# Altium schematic symbol library CPU_STM.SchLib: 336 symbols (part 6 of 6)
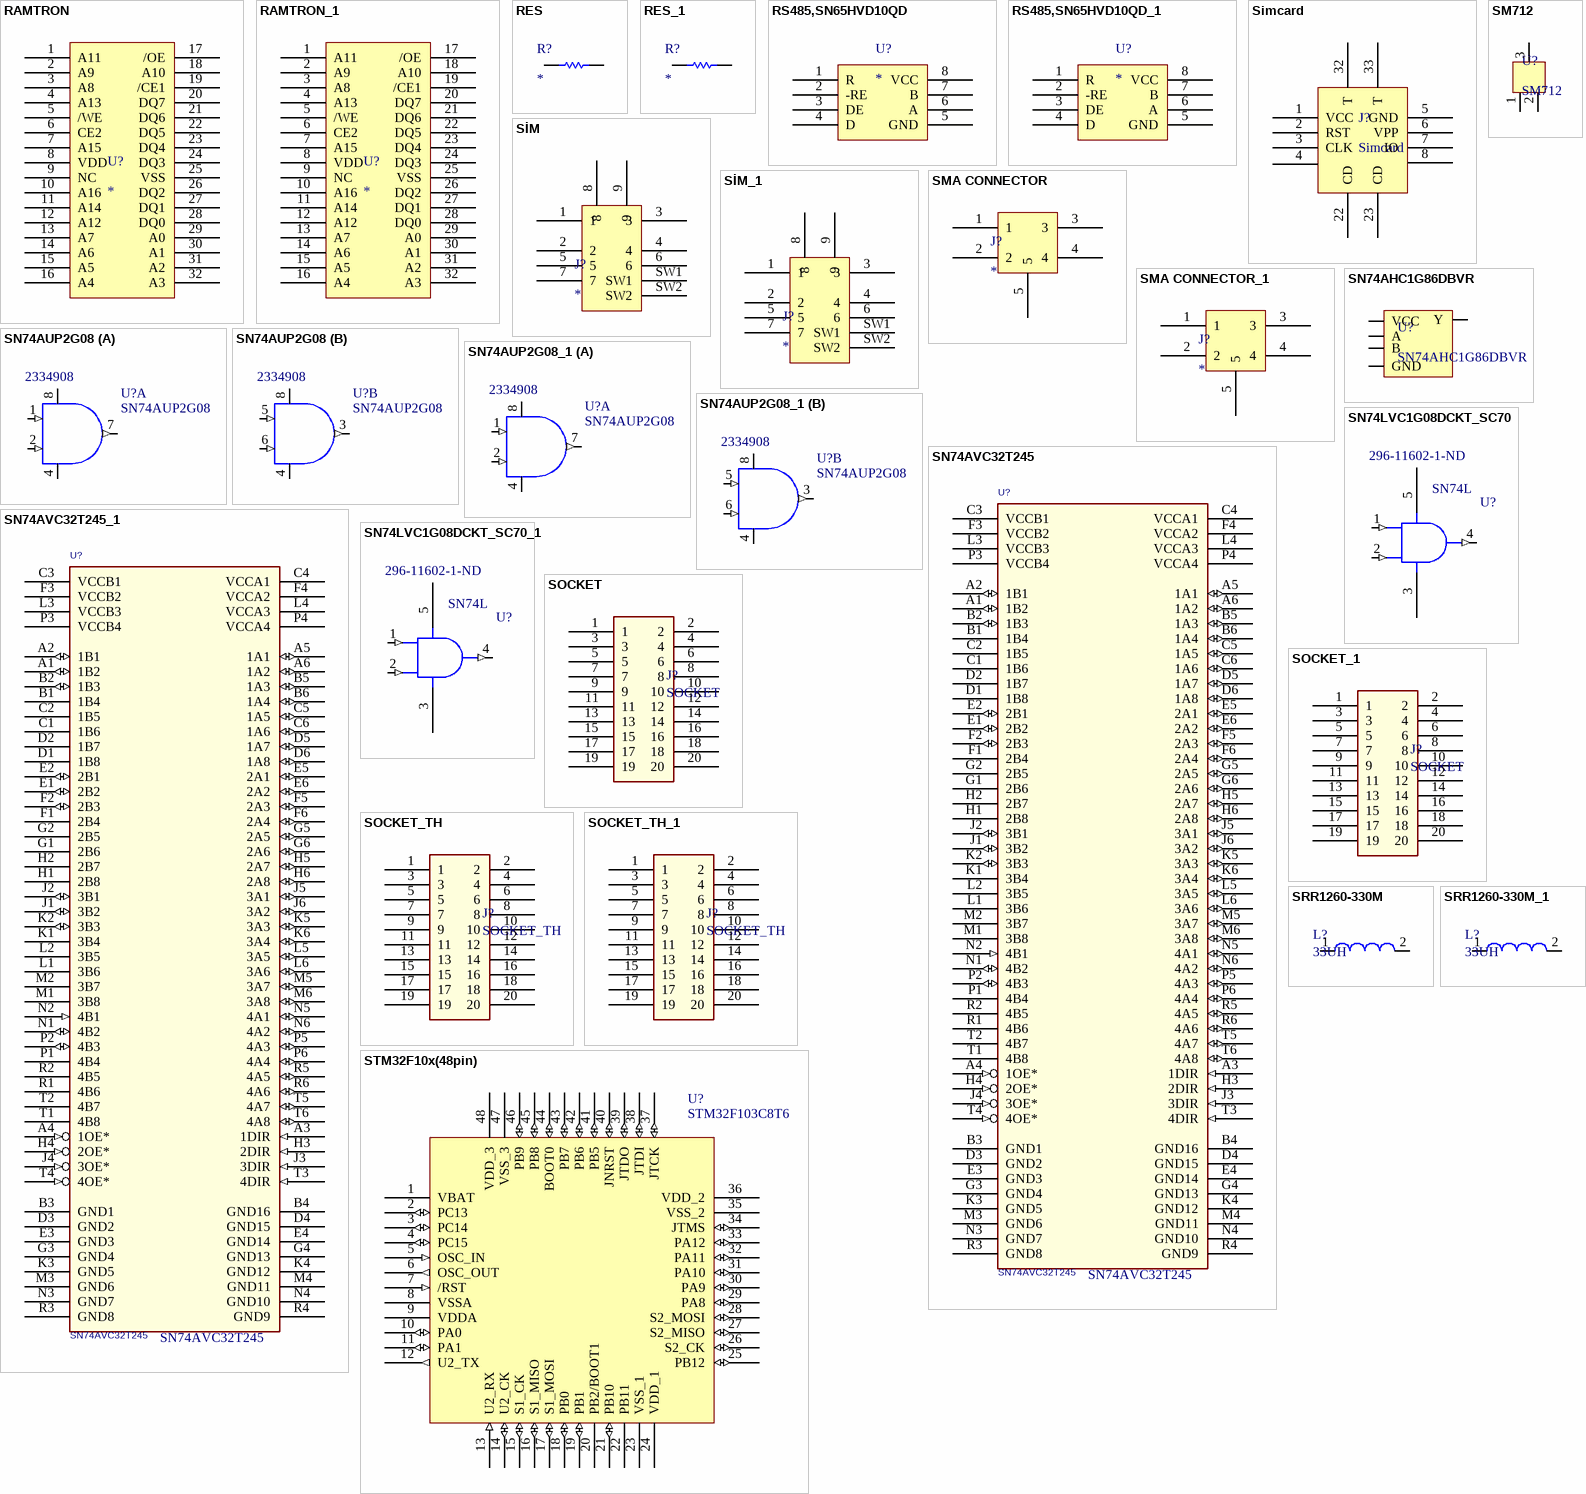
[diagram p24: symbols RAMTRON to STM32F10x(48pin)]

## RES_1
designator R?
VISHAY DRALORIC - CRCW08051K30FKEA - RESISTOR, 0805, 1K3, 1%, FULL REEL; Product Range: VISHAY - CRCW Series; Resistance: 1.3; Power Rating: 125; Resistor Case Style: 0805 [2012 Metric]; Resistor Element Material: Thick Film; Temperature Coefficient: ± 100; Voltage Rating: 150; SVHC: No SVHC (16-Dec-2013); Reel Quantity: 5000; Resistor Mounting: SMD<!--FANDB--><div class="features-and-benefits-container"></div>; Supplier 1: Farnell; Manufacturer: VISHAY DRALORIC; Manufacturer Part Number: CRCW08051K30FKEA; RoHS: Y-EX; Stock 1: 35000; Pricing 1: 5000=0,003, 25000=0,003, 50000=0,003 (EUR); Resistance Tolerance: ± 1%; Packaging: Tape & Reel; MSL: MSL 1 - Unlimited; ComponentLink1URL: http://www.farnell.com/datasheets/1697337.pdf; ComponentLink1Description: http://www.farnell.com/datasheets/1697337.pdf; Supplier Part Number 1: 2123141
footprint 0402
pins: 1, 2

## RS485,SN65HVD10QD
designator U?
TEXAS INSTRUMENTS - SN65HVD10QD - IC, RS-485 TRANSCEIVER, 3.6V, SOIC-8; Device Type: Differential Transceiver; IC Interface Type: RS485; No. of Drivers: 1; Supply Voltage Min: 3; Supply Voltage Max: 3.6; Driver Case Style: SOIC; No. of Pins: 8; Data Rate: 32; SVHC: No SVHC (16-Jun-2014); Supply Voltage Range: 3V to 3.6; Supplier 1: Farnell; Manufacturer: TEXAS INSTRUMENTS; Manufacturer Part Number: SN65HVD10QD; RoHS: YES; Stock 1: 172; Pricing 1: 1=6,53, 10=5,25, 100=4,78, 250=3,71, 500=3,48, 1000=3,06 (EUR); Operating Temperature Min: -40; Operating Temperature Max: 125; Packaging: Each; MSL: MSL 1 - Unlimited; Logic Case Style: SOIC; Operating Temperature Range: -40°C to +125; ComponentLink1URL: http://www.farnell.com/datasheets/1831135.pdf; ComponentLink1Description: http://www.farnell.com/datasheets/1831135.pdf; ComponentLink2URL: http://www.farnell.com/cad/1618781.zip; ComponentLink2Description: http://www.farnell.com/cad/1618781.zip; Supplier Part Number 1: 1460763
footprint SOIC-8
pins: 1 R, 2 -RE, 3 DE, 4 D, 5 GND, 6 A, 7 B, 8 VCC

## RS485,SN65HVD10QD_1
designator U?
TEXAS INSTRUMENTS - SN65HVD10QD - IC, RS-485 TRANSCEIVER, 3.6V, SOIC-8; Device Type: Differential Transceiver; IC Interface Type: RS485; No. of Drivers: 1; Supply Voltage Min: 3; Supply Voltage Max: 3.6; Driver Case Style: SOIC; No. of Pins: 8; Data Rate: 32; SVHC: No SVHC (16-Jun-2014); Supply Voltage Range: 3V to 3.6; Supplier 1: Farnell; Manufacturer: TEXAS INSTRUMENTS; Manufacturer Part Number: SN65HVD10QD; RoHS: YES; Stock 1: 172; Pricing 1: 1=6,53, 10=5,25, 100=4,78, 250=3,71, 500=3,48, 1000=3,06 (EUR); Operating Temperature Min: -40; Operating Temperature Max: 125; Packaging: Each; MSL: MSL 1 - Unlimited; Logic Case Style: SOIC; Operating Temperature Range: -40°C to +125; ComponentLink1URL: http://www.farnell.com/datasheets/1831135.pdf; ComponentLink1Description: http://www.farnell.com/datasheets/1831135.pdf; ComponentLink2URL: http://www.farnell.com/cad/1618781.zip; ComponentLink2Description: http://www.farnell.com/cad/1618781.zip; Supplier Part Number 1: 1460763
footprint SOIC-8
pins: 1 R, 2 -RE, 3 DE, 4 D, 5 GND, 6 A, 7 B, 8 VCC

## Simcard
designator J?
footprint SIMCARD
pins: 1 VCC, 2 RST, 3 CLK, 4, 5 GND, 6 VPP, 7 IO, 8, 22 CD, 23 CD, 32 T, 33 T

## SİM
designator J?
SİM
footprint SIM
pins: 1, 2, 3, 4, 5, 6, 7, 8, 9, SW1, SW2

## SİM_1
designator J?
SİM
footprint SIM
pins: 1, 2, 3, 4, 5, 6, 7, 8, 9, SW1, SW2

## SM712
designator U?
TVS DIODE 12VWM 21VC SOT23; Manufacturer: Micro Commercial Co; Manufacturer Part Number: SM712-TP; Bidirectional Channels: 2; Voltage - Reverse Standoff (Typ): 12V (Max); Voltage - Breakdown (Min): 13.3V; Voltage - Clamping (Max) @ Ipp: 21V; Current - Peak Pulse (10/1000µs): 5A (8/20µs); Power - Peak Pulse: 400W; Power Line Protection: No; Capacitance @ Frequency: 45pF @ 1MHz; Supplier 1: Digi-Key; RoHS: RoHS Compliant; Category: Circuit Protection; Stock 1: 35845; Pricing 1: 1=1.08, 10=0.957, 25=0.864, 100=0.756, 250=0.663, 500=0.588, 1000=0.465 (USD); Packaging: Cut Tape (CT); Type: Zener; Unidirectional Channels: -; Applications: General Purpose; Operating Temperature: -55°C ~ 150°C (TJ); Mounting Type: Surface Mount; Package / Case: TO-236-3, SC-59, SOT-23-3; Supplier Device Package: SOT-23; ComponentLink1URL: http://www.mccsemi.com/up_pdf/SM712(SOT-23).pdf; ComponentLink1Description: http://www.mccsemi.com/up_pdf/SM712(SOT-23).pdf; Supplier Part Number 1: SM712-TPMSCT-ND
footprint SM712 Sot23-3
pins: 1, 2, 3

## SMA CONNECTOR
designator J?
SMA
footprint SMA
pins: 1, 2, 3, 4, 5

## SMA CONNECTOR_1
designator J?
SMA
footprint SMA
pins: 1, 2, 3, 4, 5

## SN74AHC1G86DBVR
designator U?
IC GATE XOR 1CH 2-INP SOT-23-5; Manufacturer: Texas Instruments; Logic Type: XOR (Exclusive OR); Number of Circuits: 1; Number of Inputs: 2; Voltage - Supply: 2 V ~ 5.5 V; Current - Quiescent (Max): 1µA; Current - Output High, Low: 8mA, 8mA; Logic Level - Low: 0.5 V ~ 1.65 V; Logic Level - High: 1.5 V ~ 3.85 V; Max Propagation Delay @ V, Max CL: 8.8ns @ 5V, 50pF; Manufacturer Part Number: SN74AHC1G86DBVR; RoHS: RoHS Compliant; Category: Integrated Circuits (ICs); Packaging: Cut Tape (CT); Features: -; Operating Temperature: -40°C ~ 85°C; Mounting Type: Surface Mount; Supplier Device Package: SOT-23-5; Package / Case: SC-74A, SOT-753; ComponentLink1URL: http://www.ti.com/lit/ds/symlink/sn74ahc1g86.pdf; ComponentLink1Description: http://www.ti.com/lit/ds/symlink/sn74ahc1g86.pdf; Supplier 1: Digi-Key; Stock 1: 12192; Pricing 1: 1=0.36, 10=0.29, 100=0.198, 500=0.1482, 1000=0.111 (USD); Supplier Part Number 1: 296-1094-6-ND
footprint SOT23-5 (R-PDSO-N5)
pins: 1 A, 2 B, 3 GND, 4 Y, 5 VCC

## SN74AUP2G08
designator U?  Supplier Part Number 1: 2334908
Low Power Dual AND Gate; Mfr: TI; MfrNum: SN74AUP2G08DCU; TIIntPartnumber: 1A0249; Vendor: Digikey; Cost100: 0.11; Cost10K: 0.05; DescriptiveText: Low Power Dual AND Gate; PartName: SN74AUP2G08; Descriptive_Text: Low Power Dual AND Gate; Supplier 1: Farnell
footprint U_8_DCU
part A pins: 1 2A (in), 2 2B (in), 4 GND (power), 7 2Y (out), 8 VCC (power)
part B pins: 3 2Y (out), 4 GND (power), 5 2A (in), 6 2B (in), 8 VCC (power)

## SN74AUP2G08_1
designator U?, comment SN74AUP2G08  Supplier Part Number 1: 2334908
Low Power Dual AND Gate; Mfr: TI; MfrNum: SN74AUP2G08DCU; TIIntPartnumber: 1A0249; Vendor: Digikey; Cost100: 0.11; Cost10K: 0.05; DescriptiveText: Low Power Dual AND Gate; PartName: SN74AUP2G08; Descriptive_Text: Low Power Dual AND Gate; Supplier 1: Farnell
footprint U_8_DCU
part A pins: 1 2A (in), 2 2B (in), 4 GND (power), 7 2Y (out), 8 VCC (power)
part B pins: 3 2Y (out), 4 GND (power), 5 2A (in), 6 2B (in), 8 VCC (power)

## SN74AVC32T245
designator U?
32bit Dual Supply Bus Transceiver w/3state outputs; TIIntPartnumber: 1A0273; MfrNum: SN74AVC32T245ZKE; Mfr: TI; Cost10K: 0.63; Cost100: 1.11; Vendor: Digikey; SlotXofY: SYM 1 OF 1; Descriptive_Text: 32bit Dual Supply Bus Transceiver w/3state outputs; PartName: SN74AVC32T245ZKE; Instance: ?; BoardLocation: ?; RefLocation: ?; DescriptiveText: 32bit Dual Supply Bus Transceiver w/3state outputs; Supplier 1: Digi-Key; Supplier Part Number 1: 296-19099-2-ND; SymName: SN74AVC32T245
footprint sm_bga_p8_6x16 (SM_BGA_P8_6X16)
pins: A1 1B2 (io), A2 1B1 (io), A3 1DIR (in), A4 1OE* (in), A5 1A1 (io), A6 1A2 (io), B1 1B4, B2 1B3 (io), B3 GND1 (power), B4 GND16 (power), B5 1A3 (io), B6 1A4 (io), C1 1B6, C2 1B5, C3 VCCB1 (power), C4 VCCA1 (power), C5 1A5 (io), C6 1A6 (io), D1 1B8, D2 1B7, D3 GND2 (power), D4 GND15 (power), D5 1A7 (io), D6 1A8 (io), E1 2B2 (io), E2 2B1 (io), E3 GND3 (power), E4 GND14 (power), E5 2A1 (io), E6 2A2 (io), F1 2B4, F2 2B3 (io), F3 VCCB2 (power), F4 VCCA2 (power), F5 2A3 (io), F6 2A4 (io), G1 2B6, G2 2B5, G3 GND4 (power), G4 GND13 (power), G5 2A5 (io), G6 2A6 (io), H1 2B8, H2 2B7, H3 2DIR (in), H4 2OE* (in), H5 2A7 (io), H6 2A8 (io), J1 3B2 (io), J2 3B1 (io), J3 3DIR (in), J4 3OE* (in), J5 3A1 (io), J6 3A2 (io), K1 3B4, K2 3B3 (io), K3 GND5 (power), K4 GND12 (power), K5 3A3 (io), K6 3A4 (io), L1 3B6, L2 3B5, L3 VCCB3 (power), L4 VCCA3 (power), L5 3A5 (io), L6 3A6 (io), M1 3B8, M2 3B7, M3 GND6 (power), M4 GND11 (power), M5 3A7 (io), M6 3A8 (io), N1 4B2 (io), N2 4B1 (in), N3 GND7 (power), N4 GND10 (power), N5 4A1 (io), N6 4A2 (io), P1 4B4, P2 4B3 (io), P3 VCCB4 (power), P4 VCCA4 (power), P5 4A3 (io), P6 4A4 (io), R1 4B6, R2 4B5, R3 GND8 (power), R4 GND9 (power), R5 4A5 (io), R6 4A6 (io), T1 4B8, T2 4B7, T3 4DIR (in), T4 4OE* (in), T5 4A7 (io), T6 4A8 (io)

## SN74AVC32T245_1
designator U?, comment SN74AVC32T245
32bit Dual Supply Bus Transceiver w/3state outputs; TIIntPartnumber: 1A0273; MfrNum: SN74AVC32T245ZKE; Mfr: TI; Cost10K: 0.63; Cost100: 1.11; Vendor: Digikey; SlotXofY: SYM 1 OF 1; Descriptive_Text: 32bit Dual Supply Bus Transceiver w/3state outputs; PartName: SN74AVC32T245ZKE; Instance: ?; BoardLocation: ?; RefLocation: ?; DescriptiveText: 32bit Dual Supply Bus Transceiver w/3state outputs; Supplier 1: Digi-Key; Supplier Part Number 1: 296-19099-2-ND; SymName: SN74AVC32T245
footprint sm_bga_p8_6x16 (SM_BGA_P8_6X16)
pins: A1 1B2 (io), A2 1B1 (io), A3 1DIR (in), A4 1OE* (in), A5 1A1 (io), A6 1A2 (io), B1 1B4, B2 1B3 (io), B3 GND1 (power), B4 GND16 (power), B5 1A3 (io), B6 1A4 (io), C1 1B6, C2 1B5, C3 VCCB1 (power), C4 VCCA1 (power), C5 1A5 (io), C6 1A6 (io), D1 1B8, D2 1B7, D3 GND2 (power), D4 GND15 (power), D5 1A7 (io), D6 1A8 (io), E1 2B2 (io), E2 2B1 (io), E3 GND3 (power), E4 GND14 (power), E5 2A1 (io), E6 2A2 (io), F1 2B4, F2 2B3 (io), F3 VCCB2 (power), F4 VCCA2 (power), F5 2A3 (io), F6 2A4 (io), G1 2B6, G2 2B5, G3 GND4 (power), G4 GND13 (power), G5 2A5 (io), G6 2A6 (io), H1 2B8, H2 2B7, H3 2DIR (in), H4 2OE* (in), H5 2A7 (io), H6 2A8 (io), J1 3B2 (io), J2 3B1 (io), J3 3DIR (in), J4 3OE* (in), J5 3A1 (io), J6 3A2 (io), K1 3B4, K2 3B3 (io), K3 GND5 (power), K4 GND12 (power), K5 3A3 (io), K6 3A4 (io), L1 3B6, L2 3B5, L3 VCCB3 (power), L4 VCCA3 (power), L5 3A5 (io), L6 3A6 (io), M1 3B8, M2 3B7, M3 GND6 (power), M4 GND11 (power), M5 3A7 (io), M6 3A8 (io), N1 4B2 (io), N2 4B1 (in), N3 GND7 (power), N4 GND10 (power), N5 4A1 (io), N6 4A2 (io), P1 4B4, P2 4B3 (io), P3 VCCB4 (power), P4 VCCA4 (power), P5 4A3 (io), P6 4A4 (io), R1 4B6, R2 4B5, R3 GND8 (power), R4 GND9 (power), R5 4A5 (io), R6 4A6 (io), T1 4B8, T2 4B7, T3 4DIR (in), T4 4OE* (in), T5 4A7 (io), T6 4A8 (io)

## SN74LVC1G08DCKT_SC70
designator U?, comment SN74L  Supplier Part Number 1: 296-11602-1-ND
Single logic AND Gate; PartName: SN74LVC1G08_SC70; Mfr: TI; MfrNum: SN74LVC1G08DCK; TIIntPartnumber: 1A0257; Vendor: Digikey; Cost100: 0.31; Cost10K: 0.05; Descriptive_Text: Single logic AND Gate; DescriptiveText: Single logic AND Gate; Supplier 1: Digi-Key
footprint sm-so-sc70-5 (SM-SO-SC70-5)
pins: 1 A (in), 2 B (in), 3 GND (power), 4 Y (out), 5 VCC (power)

## SN74LVC1G08DCKT_SC70_1
designator U?, comment SN74L  Supplier Part Number 1: 296-11602-1-ND
Single logic AND Gate; PartName: SN74LVC1G08_SC70; Mfr: TI; MfrNum: SN74LVC1G08DCK; TIIntPartnumber: 1A0257; Vendor: Digikey; Cost100: 0.31; Cost10K: 0.05; Descriptive_Text: Single logic AND Gate; DescriptiveText: Single logic AND Gate; Supplier 1: Digi-Key
footprint sm-so-sc70-5 (SM-SO-SC70-5)
pins: 1 A (in), 2 B (in), 3 GND (power), 4 Y (out), 5 VCC (power)

## SOCKET
designator J?
Headers & Wire Housings 10+10 DIL SMT GOLD VERTICAL SOCKET; Manufacturer: Harwin; Manufacturer Part Number: M50-3121045; Number of Positions: 20; Pitch: 1.27 mm; Supplier 1: Mouser; RoHS: RoHS Compliant; Category: Headers & Wire Housings; Stock 1: 293; Pricing 1: 1=3.03, 10=2.90, 25=2.54, 100=2.42, 250=2.12, 500=2.06, 1000=1.76, 2500=1.64, 5000=1.56 (USD); Contact Plating: Gold; Mounting Angle: Vertical; Number of Rows: 2; Product: Headers; Series: M50; Termination Style: SMD; Type: Socket Assembly; Brand: Harwin; Mounting Style: -; Contact Gender: Socket (Female); Product Category: 1.27mm, M50, Archer; Standard Pack Qty: 46; Tradename: ARCHER; RoHS - Mouser: Y; Minimum Order Quantity: 1; Reeling: False; ComponentLink1URL: http://www.mouser.com/ds/2/181/M50-312-351210.pdf; ComponentLink1Description: http://www.mouser.com/ds/2/181/M50-312-351210.pdf; Supplier Part Number 1: 855-M50-3121045
footprint SOCKET
pins: 1, 2, 3, 4, 5, 6 (power), 7, 8 (power), 9, 10 (power), 11, 12 (power), 13, 14, 15, 16 (power), 17, 18, 19, 20 (power)

## SOCKET_1
designator J?, comment SOCKET
Headers & Wire Housings 10+10 DIL SMT GOLD VERTICAL SOCKET; Manufacturer: Harwin; Manufacturer Part Number: M50-3121045; Number of Positions: 20; Pitch: 1.27 mm; Supplier 1: Mouser; RoHS: RoHS Compliant; Category: Headers & Wire Housings; Stock 1: 293; Pricing 1: 1=3.03, 10=2.90, 25=2.54, 100=2.42, 250=2.12, 500=2.06, 1000=1.76, 2500=1.64, 5000=1.56 (USD); Contact Plating: Gold; Mounting Angle: Vertical; Number of Rows: 2; Product: Headers; Series: M50; Termination Style: SMD; Type: Socket Assembly; Brand: Harwin; Mounting Style: -; Contact Gender: Socket (Female); Product Category: 1.27mm, M50, Archer; Standard Pack Qty: 46; Tradename: ARCHER; RoHS - Mouser: Y; Minimum Order Quantity: 1; Reeling: False; ComponentLink1URL: http://www.mouser.com/ds/2/181/M50-312-351210.pdf; ComponentLink1Description: http://www.mouser.com/ds/2/181/M50-312-351210.pdf; Supplier Part Number 1: 855-M50-3121045
footprint SOCKET
pins: 1, 2, 3, 4, 5, 6 (power), 7, 8 (power), 9, 10 (power), 11, 12 (power), 13, 14, 15, 16 (power), 17, 18, 19, 20 (power)

## SOCKET_TH
designator J?
Headers & Wire Housings 10+10 DIL SMT GOLD VERTICAL SOCKET; Manufacturer: Harwin; Manufacturer Part Number: M50-3121045; Number of Positions: 20; Pitch: 1.27 mm; Supplier 1: Mouser; RoHS: RoHS Compliant; Category: Headers & Wire Housings; Stock 1: 293; Pricing 1: 1=3.03, 10=2.90, 25=2.54, 100=2.42, 250=2.12, 500=2.06, 1000=1.76, 2500=1.64, 5000=1.56 (USD); Contact Plating: Gold; Mounting Angle: Vertical; Number of Rows: 2; Product: Headers; Series: M50; Termination Style: SMD; Type: Socket Assembly; Brand: Harwin; Mounting Style: -; Contact Gender: Socket (Female); Product Category: 1.27mm, M50, Archer; Standard Pack Qty: 46; Tradename: ARCHER; RoHS - Mouser: Y; Minimum Order Quantity: 1; Reeling: False; ComponentLink1URL: http://www.mouser.com/ds/2/181/M50-312-351210.pdf; ComponentLink1Description: http://www.mouser.com/ds/2/181/M50-312-351210.pdf; Supplier Part Number 1: 855-M50-3121045
footprint JTAG,0.254
pins: 1, 2, 3, 4, 5, 6 (power), 7, 8 (power), 9, 10 (power), 11, 12 (power), 13, 14, 15, 16 (power), 17, 18, 19, 20 (power)

## SOCKET_TH_1
designator J?, comment SOCKET_TH
Headers & Wire Housings 10+10 DIL SMT GOLD VERTICAL SOCKET; Manufacturer: Harwin; Manufacturer Part Number: M50-3121045; Number of Positions: 20; Pitch: 1.27 mm; Supplier 1: Mouser; RoHS: RoHS Compliant; Category: Headers & Wire Housings; Stock 1: 293; Pricing 1: 1=3.03, 10=2.90, 25=2.54, 100=2.42, 250=2.12, 500=2.06, 1000=1.76, 2500=1.64, 5000=1.56 (USD); Contact Plating: Gold; Mounting Angle: Vertical; Number of Rows: 2; Product: Headers; Series: M50; Termination Style: SMD; Type: Socket Assembly; Brand: Harwin; Mounting Style: -; Contact Gender: Socket (Female); Product Category: 1.27mm, M50, Archer; Standard Pack Qty: 46; Tradename: ARCHER; RoHS - Mouser: Y; Minimum Order Quantity: 1; Reeling: False; ComponentLink1URL: http://www.mouser.com/ds/2/181/M50-312-351210.pdf; ComponentLink1Description: http://www.mouser.com/ds/2/181/M50-312-351210.pdf; Supplier Part Number 1: 855-M50-3121045
footprint JTAG,0.254
pins: 1, 2, 3, 4, 5, 6 (power), 7, 8 (power), 9, 10 (power), 11, 12 (power), 13, 14, 15, 16 (power), 17, 18, 19, 20 (power)

## SRR1260-330M
designator L?, comment 33UH
Fixed Inductors 33uH 20% SMD 1260; Manufacturer: Bourns; Manufacturer Part Number: SRR1260-330M; Maximum DC Current: 3 A; Maximum DC Resistance: 60 mOhms; Q Minimum: 27; Self Resonant Frequency: 9.97 MHz; Shielding: Shielded; Type: Shielded Power Inductor; Case Height: 6 mm; Case Length: 12.5 mm; Supplier 1: Mouser; RoHS: RoHS Compliant; Category: Fixed Inductors; Stock 1: 3279; Pricing 1: 1=0.972, 10=0.853, 50=0.730, 100=0.694, 250=0.634, 600=0.439, 1200=0.437 (USD); Inductance: 33 uH; Operating Temperature Range: - 40 C to + 125 C; Package/Case: 1260; Packaging: Reel; Product: Power Inductors; Series: SRR1260; Termination Style: SMD/SMT; Tolerance: 20 %; Brand: Bourns; Case Width: 12.5 mm; Product Category: Shielded Power Inductors; Standard Pack Qty: 600; RoHS - Mouser: Y; Minimum Order Quantity: 1; Reeling: True; ComponentLink1URL: http://www.mouser.com/ds/2/54/SRR1260-59143.pdf; ComponentLink1Description: http://www.mouser.com/ds/2/54/SRR1260-59143.pdf; Supplier Part Number 1: 652-SRR1260-330M
footprint indkrt_2
pins: 1, 2

## SRR1260-330M_1
designator L?, comment 33UH
Fixed Inductors 33uH 20% SMD 1260; Manufacturer: Bourns; Manufacturer Part Number: SRR1260-330M; Maximum DC Current: 3 A; Maximum DC Resistance: 60 mOhms; Q Minimum: 27; Self Resonant Frequency: 9.97 MHz; Shielding: Shielded; Type: Shielded Power Inductor; Case Height: 6 mm; Case Length: 12.5 mm; Supplier 1: Mouser; RoHS: RoHS Compliant; Category: Fixed Inductors; Stock 1: 3279; Pricing 1: 1=0.972, 10=0.853, 50=0.730, 100=0.694, 250=0.634, 600=0.439, 1200=0.437 (USD); Inductance: 33 uH; Operating Temperature Range: - 40 C to + 125 C; Package/Case: 1260; Packaging: Reel; Product: Power Inductors; Series: SRR1260; Termination Style: SMD/SMT; Tolerance: 20 %; Brand: Bourns; Case Width: 12.5 mm; Product Category: Shielded Power Inductors; Standard Pack Qty: 600; RoHS - Mouser: Y; Minimum Order Quantity: 1; Reeling: True; ComponentLink1URL: http://www.mouser.com/ds/2/54/SRR1260-59143.pdf; ComponentLink1Description: http://www.mouser.com/ds/2/54/SRR1260-59143.pdf; Supplier Part Number 1: 652-SRR1260-330M
footprint indkrt_2
pins: 1, 2

## STM32F10x(48pin)
designator U?, comment STM32F103C8T6
Manufacturer: STMicroelectronics; Program Memory Type: Flash; A/D Bit Size: 12 bit; A/D Channels Available: 10; Data RAM Size: 20 kB; Data RAM Type: SRAM; Interface Type: CAN, I2C, SPI, USART, USB; Number of I/Os: 48 I/O; Program Memory Size: 64 kB; Core: ARM Cortex M3; Data Bus Width: 32 bit; Maximum Clock Frequency: 72 MHz; Number of Timers: 3 Timer; Operating Supply Voltage: 2 V to 3.6 V; Processor Series: ARM Cortex-M; Supplier 1: Mouser; Manufacturer Part Number: STM32F103C8T6; RoHS: RoHS Compliant; Category: ARM Microcontrollers - MCU; Stock 1: 2583; Pricing 1: 1=6.28, 10=5.06, 100=4.49, 250=4.14, 500=3.73, 1000=3.15, 2500=2.98 (USD); Length: 7 mm; Package/Case: LQFP-48; Packaging: Tray; Series: STM32F1; Brand: STMicroelectronics; Mounting Style: SMD/SMT; Maximum Operating Temperature: + 85 C; Minimum Operating Temperature: - 40 C; Product Category: ARM Based Microcontrollers; Standard Pack Qty: 250; Tradename: STM32; RoHS - Mouser: Y; Minimum Order Quantity: 1; Reeling: False; ComponentLink1URL: http://www.st.com/web/en/resource/technical/document/datasheet/CD00161566.pdf; ComponentLink1Description: http://www.st.com/web/en/resource/technical/document/datasheet/CD00161566.pdf; Supplier Part Number 1: 511-STM32F103C8T6
footprint STM-LQFP48_M (QFP, 48-Leads, Body 7x7mm, Pitch 0.5mm, IPC Low Density)
pins: 1 VBAT (power), 2 PC13 (io), 3 PC14 (io), 4 PC15 (io), 5 OSC_IN (in), 6 OSC_OUT (out), 7 /RST (in), 8 VSSA, 9 VDDA (power), 10 PA0 (io), 11 PA1 (io), 12 U2_TX (out), 13 U2_RX (in), 14 U2_CK (io), 15 S1_CK (io), 16 S1_MISO (io), 17 S1_MOSI (io), 18 PB0 (io), 19 PB1 (io), 20 PB2/BOOT1, 21 PB10 (io), 22 PB11, 23 VSS_1, 24 VDD_1 (power), 25 PB12 (io), 26 S2_CK (io), 27 S2_MISO (io), 28 S2_MOSI (io), 29 PA8 (io), 30 PA9 (io), 31 PA10 (io), 32 PA11 (io), 33 PA12 (io), 34 JTMS (io), 35 VSS_2, 36 VDD_2 (power), 37 JTCK (io), 38 JTDI (io), 39 JTDO (io), 40 JNRST (io), 41 PB5 (io), 42 PB6 (io), 43 PB7 (io), 44 BOOT0 (io), 45 PB8 (io), 46 PB9 (io), 47 VSS_3, 48 VDD_3 (power)
2 alternate drawings of the same symbol

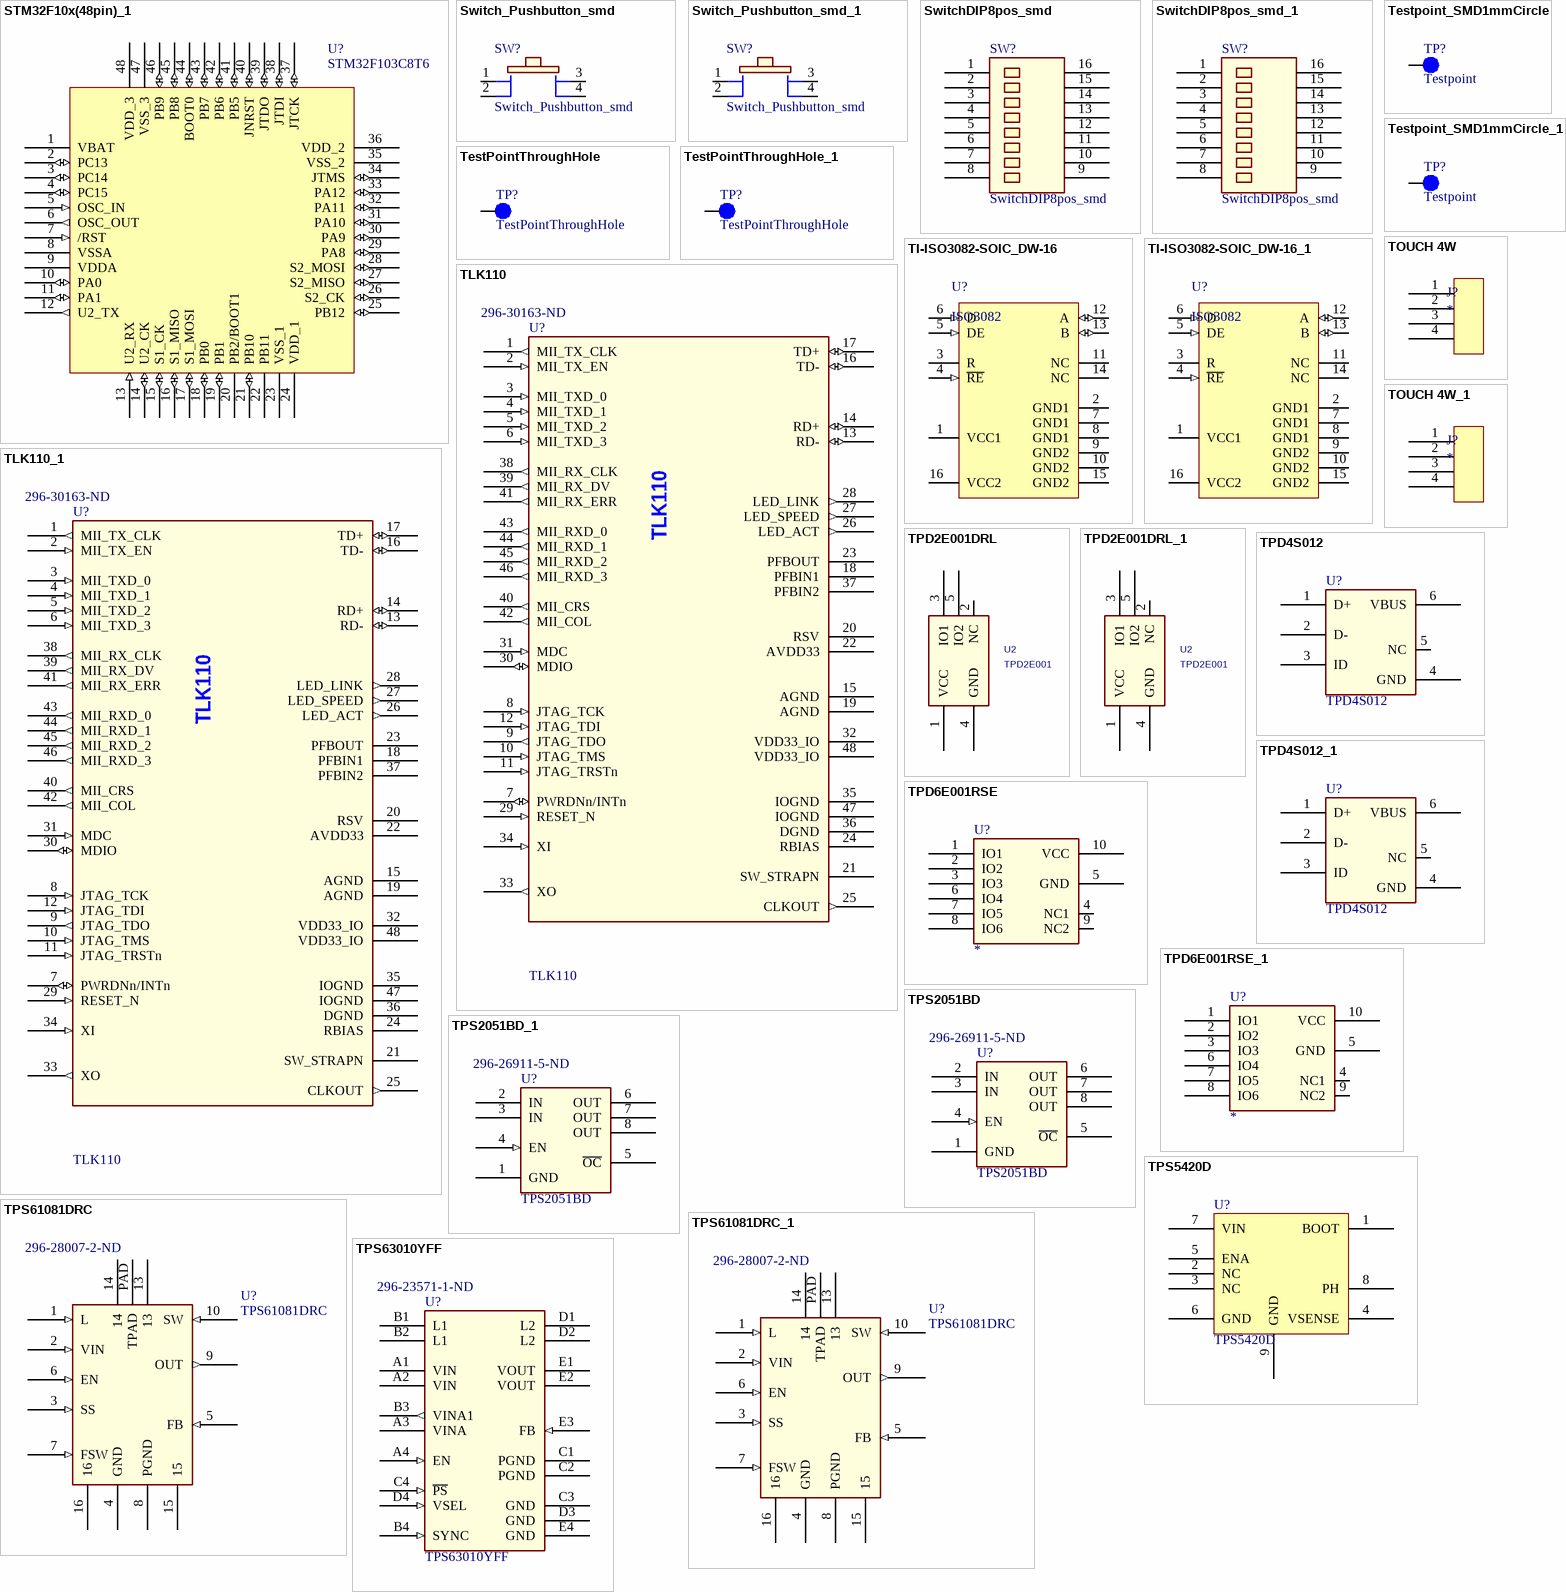
[diagram p18: symbols STM32F10x(48pin)_1 to TPS63010YFF]

## STM32F10x(48pin)_1
designator U?, comment STM32F103C8T6
Manufacturer: STMicroelectronics; Program Memory Type: Flash; A/D Bit Size: 12 bit; A/D Channels Available: 10; Data RAM Size: 20 kB; Data RAM Type: SRAM; Interface Type: CAN, I2C, SPI, USART, USB; Number of I/Os: 48 I/O; Program Memory Size: 64 kB; Core: ARM Cortex M3; Data Bus Width: 32 bit; Maximum Clock Frequency: 72 MHz; Number of Timers: 3 Timer; Operating Supply Voltage: 2 V to 3.6 V; Processor Series: ARM Cortex-M; Supplier 1: Mouser; Manufacturer Part Number: STM32F103C8T6; RoHS: RoHS Compliant; Category: ARM Microcontrollers - MCU; Stock 1: 2583; Pricing 1: 1=6.28, 10=5.06, 100=4.49, 250=4.14, 500=3.73, 1000=3.15, 2500=2.98 (USD); Length: 7 mm; Package/Case: LQFP-48; Packaging: Tray; Series: STM32F1; Brand: STMicroelectronics; Mounting Style: SMD/SMT; Maximum Operating Temperature: + 85 C; Minimum Operating Temperature: - 40 C; Product Category: ARM Based Microcontrollers; Standard Pack Qty: 250; Tradename: STM32; RoHS - Mouser: Y; Minimum Order Quantity: 1; Reeling: False; ComponentLink1URL: http://www.st.com/web/en/resource/technical/document/datasheet/CD00161566.pdf; ComponentLink1Description: http://www.st.com/web/en/resource/technical/document/datasheet/CD00161566.pdf; Supplier Part Number 1: 511-STM32F103C8T6
footprint STM-LQFP48_M (QFP, 48-Leads, Body 7x7mm, Pitch 0.5mm, IPC Low Density)
pins: 1 VBAT (power), 2 PC13 (io), 3 PC14 (io), 4 PC15 (io), 5 OSC_IN (in), 6 OSC_OUT (out), 7 /RST (in), 8 VSSA, 9 VDDA (power), 10 PA0 (io), 11 PA1 (io), 12 U2_TX (out), 13 U2_RX (in), 14 U2_CK (io), 15 S1_CK (io), 16 S1_MISO (io), 17 S1_MOSI (io), 18 PB0 (io), 19 PB1 (io), 20 PB2/BOOT1, 21 PB10 (io), 22 PB11, 23 VSS_1, 24 VDD_1 (power), 25 PB12 (io), 26 S2_CK (io), 27 S2_MISO (io), 28 S2_MOSI (io), 29 PA8 (io), 30 PA9 (io), 31 PA10 (io), 32 PA11 (io), 33 PA12 (io), 34 JTMS (io), 35 VSS_2, 36 VDD_2 (power), 37 JTCK (io), 38 JTDI (io), 39 JTDO (io), 40 JNRST (io), 41 PB5 (io), 42 PB6 (io), 43 PB7 (io), 44 BOOT0 (io), 45 PB8 (io), 46 PB9 (io), 47 VSS_3, 48 VDD_3 (power)
2 alternate drawings of the same symbol

## Switch_Pushbutton_smd
designator SW?
Switch Push Button tactile; TIIntPartnumber: 2W0018; MfrNum: B3SL-1022P; Mfr: Omron; PartName: SwitchPushMomTactilesmd; Cost10K: 0.25; Cost100: 0.340; Vendor: Digikey; DescriptiveText: Switch Push Button tactile; Descriptive_Text: Switch Push Button tactile
footprint SW_B3SL-1022P
pins: 1, 2, 3, 4

## Switch_Pushbutton_smd_1
designator SW?, comment Switch_Pushbutton_smd
Switch Push Button tactile; TIIntPartnumber: 2W0018; MfrNum: B3SL-1022P; Mfr: Omron; PartName: SwitchPushMomTactilesmd; Cost10K: 0.25; Cost100: 0.340; Vendor: Digikey; DescriptiveText: Switch Push Button tactile; Descriptive_Text: Switch Push Button tactile
footprint SW_B3SL-1022P
pins: 1, 2, 3, 4

## SwitchDIP8pos_smd
designator SW?
DIP Switch 8pos smd; Mfr: CTS Electrocomponents; MfrNum: 219-8MST; TIIntPartnumber: 2W0017; Vendor: Digikey; Cost100: 0.85; Cost10K: 0.38; DescriptiveText: DIP Switch 8pos smd; PartName: SwitchDIP8pos_smd; Descriptive_Text: DIP Switch 8pos smd; Supplier 1: Digi-Key; Supplier Part Number 1: CT2198MST-ND
footprint 219-8MST
pins: 1, 2, 3, 4, 5, 6, 7, 8, 9, 10, 11, 12, 13, 14, 15, 16

## SwitchDIP8pos_smd_1
designator SW?, comment SwitchDIP8pos_smd
DIP Switch 8pos smd; Mfr: CTS Electrocomponents; MfrNum: 219-8MST; TIIntPartnumber: 2W0017; Vendor: Digikey; Cost100: 0.85; Cost10K: 0.38; DescriptiveText: DIP Switch 8pos smd; PartName: SwitchDIP8pos_smd; Descriptive_Text: DIP Switch 8pos smd; Supplier 1: Digi-Key; Supplier Part Number 1: CT2198MST-ND
footprint 219-8MST
pins: 1, 2, 3, 4, 5, 6, 7, 8, 9, 10, 11, 12, 13, 14, 15, 16

## Testpoint_SMD1mmCircle
designator TP?, comment Testpoint
Testpoint SMD; PartName: TestpointSMD1mmCircle; TIIntPartnumber: 2H0046; DescriptiveText: Testpoint SMD 1mm circle pad; Cost100: 0; Mfr: N/A; MfrNum: N/A; Vendor: N/A; Cost10K: 0; Descriptive_Text: Testpoint SMD 1mm circle pad
footprint tp_smd1mmcircle
pins: 1

## Testpoint_SMD1mmCircle_1
designator TP?, comment Testpoint
Testpoint SMD; PartName: TestpointSMD1mmCircle; TIIntPartnumber: 2H0046; DescriptiveText: Testpoint SMD 1mm circle pad; Cost100: 0; Mfr: N/A; MfrNum: N/A; Vendor: N/A; Cost10K: 0; Descriptive_Text: Testpoint SMD 1mm circle pad
footprint tp_smd1mmcircle
pins: 1

## TestPointThroughHole
designator TP?
Testpoint TH; Mfr: Keystone Electronics; MfrNum: 5002; TIIntPartnumber: 2H0026; DescriptiveText: Testpoint Miniature Through Hole; Vendor: Digikey; Cost100: 0.163; Cost10K: 0.079; PartName: TestPointThroughHole; Descriptive_Text: Testpoint Miniature Through Hole
footprint TH_TP_5002
pins: 1

## TestPointThroughHole_1
designator TP?, comment TestPointThroughHole
Testpoint TH; Mfr: Keystone Electronics; MfrNum: 5002; TIIntPartnumber: 2H0026; DescriptiveText: Testpoint Miniature Through Hole; Vendor: Digikey; Cost100: 0.163; Cost10K: 0.079; PartName: TestPointThroughHole; Descriptive_Text: Testpoint Miniature Through Hole
footprint TH_TP_5002
pins: 1

## TI-ISO3082-SOIC_DW-16
designator U?, comment ISO3082
TEXAS INSTRUMENTS - ISO3082DW - IC, HALF-DUPLEX RS485 TXRX 16SOIC; Supplier 1: Farnell; Manufacturer: TEXAS INSTRUMENTS; Manufacturer Part Number: ISO3082DW; RoHS: YES; Stock 1: 553; Pricing 1: 1=7.55, 10=4.83, 100=3.18, 250=2.77, 500=2.69, 900=2.62, 2000=2.58 (GBP); ComponentLink1URL: http://www.farnell.com/datasheets/2018869.pdf; ComponentLink1Description: http://www.farnell.com/datasheets/2018869.pdf; ComponentLink2URL: http://www.farnell.com/cad/1611922.zip; ComponentLink2Description: http://www.farnell.com/cad/1611922.zip; ComponentLink3URL: http://www.farnell.com/datasheets/1828908.pdf; ComponentLink3Description: http://www.farnell.com/datasheets/1828908.pdf; Supplier Part Number 1: 1755040
footprint DW16_L (SOIC, 16-Leads, Body 10.3x7.5mm, Pitch 1.27mm, IPC High Density)
pins: 1 VCC1 (power), 2 GND1 (power), 3 R (hiz), 4 ~{RE} (in), 5 DE (in), 6 D (in), 7 GND1 (power), 8 GND1 (power), 9 GND2 (power), 10 GND2 (power), 11 NC, 12 A (io), 13 B (io), 14 NC, 15 GND2 (power), 16 VCC2 (power)

## TI-ISO3082-SOIC_DW-16_1
designator U?, comment ISO3082
TEXAS INSTRUMENTS - ISO3082DW - IC, HALF-DUPLEX RS485 TXRX 16SOIC; Supplier 1: Farnell; Manufacturer: TEXAS INSTRUMENTS; Manufacturer Part Number: ISO3082DW; RoHS: YES; Stock 1: 553; Pricing 1: 1=7.55, 10=4.83, 100=3.18, 250=2.77, 500=2.69, 900=2.62, 2000=2.58 (GBP); ComponentLink1URL: http://www.farnell.com/datasheets/2018869.pdf; ComponentLink1Description: http://www.farnell.com/datasheets/2018869.pdf; ComponentLink2URL: http://www.farnell.com/cad/1611922.zip; ComponentLink2Description: http://www.farnell.com/cad/1611922.zip; ComponentLink3URL: http://www.farnell.com/datasheets/1828908.pdf; ComponentLink3Description: http://www.farnell.com/datasheets/1828908.pdf; Supplier Part Number 1: 1755040
footprint DW16_L (SOIC, 16-Leads, Body 10.3x7.5mm, Pitch 1.27mm, IPC High Density)
pins: 1 VCC1 (power), 2 GND1 (power), 3 R (hiz), 4 ~{RE} (in), 5 DE (in), 6 D (in), 7 GND1 (power), 8 GND1 (power), 9 GND2 (power), 10 GND2 (power), 11 NC, 12 A (io), 13 B (io), 14 NC, 15 GND2 (power), 16 VCC2 (power)

## TLK110
designator U?  Supplier Part Number 1: 296-30163-ND
Industrial Ethernet 10/100 Mb/s PHY Transceiver; TIIntPartnumber: 1A0291; MfrNum: TLK110PT; Mfr: TI; Cost10K: 2.31; Cost100: 5.01; Vendor: Digikey; Descriptive_Text: Industrial Ethernet 10/100 Mb/s PHY Transceiver; PartName: TLK110; DescriptiveText: Industrial Ethernet 10/100 Mb/s PHY Transceiver; Supplier 1: Digi-Key
footprint HTQFP_48pin
pins: 1 MII_TX_CLK (out), 2 MII_TX_EN (in), 3 MII_TXD_0 (in), 4 MII_TXD_1 (in), 5 MII_TXD_2 (in), 6 MII_TXD_3 (in), 7 PWRDNn/INTn (io), 8 JTAG_TCK (in), 9 JTAG_TDO (out), 10 JTAG_TMS (in), 11 JTAG_TRSTn (in), 12 JTAG_TDI (in), 13 RD- (io), 14 RD+ (io), 15 AGND (power), 16 TD- (io), 17 TD+ (io), 18 PFBIN1 (power), 19 AGND (power), 20 RSV, 21 SW_STRAPN, 22 AVDD33 (power), 23 PFBOUT (power), 24 RBIAS, 25 CLKOUT (out), 26 LED_ACT (out), 27 LED_SPEED (out), 28 LED_LINK (out), 29 RESET_N (in), 30 MDIO (io), 31 MDC (in), 32 VDD33_IO (power), 33 XO (out), 34 XI (in), 35 IOGND (power), 36 DGND (power), 37 PFBIN2 (power), 38 MII_RX_CLK (out), 39 MII_RX_DV (out), 40 MII_CRS (out), 41 MII_RX_ERR (out), 42 MII_COL (out), 43 MII_RXD_0 (out), 44 MII_RXD_1 (out), 45 MII_RXD_2 (out), 46 MII_RXD_3 (out), 47 IOGND (power), 48 VDD33_IO (power)

## TLK110_1
designator U?, comment TLK110  Supplier Part Number 1: 296-30163-ND
Industrial Ethernet 10/100 Mb/s PHY Transceiver; TIIntPartnumber: 1A0291; MfrNum: TLK110PT; Mfr: TI; Cost10K: 2.31; Cost100: 5.01; Vendor: Digikey; Descriptive_Text: Industrial Ethernet 10/100 Mb/s PHY Transceiver; PartName: TLK110; DescriptiveText: Industrial Ethernet 10/100 Mb/s PHY Transceiver; Supplier 1: Digi-Key
footprint HTQFP_48pin
pins: 1 MII_TX_CLK (out), 2 MII_TX_EN (in), 3 MII_TXD_0 (in), 4 MII_TXD_1 (in), 5 MII_TXD_2 (in), 6 MII_TXD_3 (in), 7 PWRDNn/INTn (io), 8 JTAG_TCK (in), 9 JTAG_TDO (out), 10 JTAG_TMS (in), 11 JTAG_TRSTn (in), 12 JTAG_TDI (in), 13 RD- (io), 14 RD+ (io), 15 AGND (power), 16 TD- (io), 17 TD+ (io), 18 PFBIN1 (power), 19 AGND (power), 20 RSV, 21 SW_STRAPN, 22 AVDD33 (power), 23 PFBOUT (power), 24 RBIAS, 25 CLKOUT (out), 26 LED_ACT (out), 27 LED_SPEED (out), 28 LED_LINK (out), 29 RESET_N (in), 30 MDIO (io), 31 MDC (in), 32 VDD33_IO (power), 33 XO (out), 34 XI (in), 35 IOGND (power), 36 DGND (power), 37 PFBIN2 (power), 38 MII_RX_CLK (out), 39 MII_RX_DV (out), 40 MII_CRS (out), 41 MII_RX_ERR (out), 42 MII_COL (out), 43 MII_RXD_0 (out), 44 MII_RXD_1 (out), 45 MII_RXD_2 (out), 46 MII_RXD_3 (out), 47 IOGND (power), 48 VDD33_IO (power)

## TOUCH 4W
designator J?
MOLEX - 52207-0460 - SOCKET ZIF, 1MM, 4WAY; Gender: Receptacle; Pitch Spacing: 1; No. of Contacts: 4; FFC/FPC Thickness: 0.3; Contact Termination Type: Surface Mount; Contact Position: Top; Contact Termination: Surface Mount Right Angle; Supplier 1: Farnell; Manufacturer: MOLEX; Manufacturer Part Number: 52207-0460; RoHS: YES; Stock 1: 3058; Pricing 1: 1=0,601, 10=0,419, 500=0,248, 1000=0,247, 2500=0,246, 5000=0,244, 5000=0,243, 30000=0,241 (EUR); Series: -; No. of Rows: 1; Contact Plating: Gold; Contact Material: Phosphor Bronze; Packaging: Cut Tape<!--FANDB--><div class="features-and-benefits-container"><div class="features-and-benefits-desc-container"><span class="features-and-benefits-container-desc">FFC/FPC Connector, Right-Angle, SMT, ZIF, Top Contact Style Receptacle, 4 Way</span></div><div class="features-and-benefits-list"><ul class="features-and-benefits-list-list"><li class="features-and-benefits-list-item">Robust solder tabs (nails)</li><li class="features-and-benefits-list-item">ZIF and LIF options</li><li class="features-and-benefits-list-item">Robust terminal and actuator designs</li></ul></div></div>; ComponentLink1URL: http://www.farnell.com/cad/1771235.pdf; ComponentLink1Description: http://www.farnell.com/cad/1771235.pdf; ComponentLink2URL: http://www.farnell.com/datasheets/1783888.pdf; ComponentLink2Description: http://www.farnell.com/datasheets/1783888.pdf; Supplier Part Number 1: 1509028
footprint HEADER,3PİN
pins: 1, 2, 3, 4

## TOUCH 4W_1
designator J?
MOLEX - 52207-0460 - SOCKET ZIF, 1MM, 4WAY; Gender: Receptacle; Pitch Spacing: 1; No. of Contacts: 4; FFC/FPC Thickness: 0.3; Contact Termination Type: Surface Mount; Contact Position: Top; Contact Termination: Surface Mount Right Angle; Supplier 1: Farnell; Manufacturer: MOLEX; Manufacturer Part Number: 52207-0460; RoHS: YES; Stock 1: 3058; Pricing 1: 1=0,601, 10=0,419, 500=0,248, 1000=0,247, 2500=0,246, 5000=0,244, 5000=0,243, 30000=0,241 (EUR); Series: -; No. of Rows: 1; Contact Plating: Gold; Contact Material: Phosphor Bronze; Packaging: Cut Tape<!--FANDB--><div class="features-and-benefits-container"><div class="features-and-benefits-desc-container"><span class="features-and-benefits-container-desc">FFC/FPC Connector, Right-Angle, SMT, ZIF, Top Contact Style Receptacle, 4 Way</span></div><div class="features-and-benefits-list"><ul class="features-and-benefits-list-list"><li class="features-and-benefits-list-item">Robust solder tabs (nails)</li><li class="features-and-benefits-list-item">ZIF and LIF options</li><li class="features-and-benefits-list-item">Robust terminal and actuator designs</li></ul></div></div>; ComponentLink1URL: http://www.farnell.com/cad/1771235.pdf; ComponentLink1Description: http://www.farnell.com/cad/1771235.pdf; ComponentLink2URL: http://www.farnell.com/datasheets/1783888.pdf; ComponentLink2Description: http://www.farnell.com/datasheets/1783888.pdf; Supplier Part Number 1: 1509028
footprint HEADER,3PİN
pins: 1, 2, 3, 4

## TPD2E001DRL
designator U2, comment TPD2E001
TIIntPartnumber: 1A0247; MfrNum: TPD2E001DRL; Mfr: TI; Cost10K: 0.07; Cost100: 0.31; Vendor: Digikey; DescriptiveText: ESD Protection Array 2Chan +-15kV; PartName: TPD2E001; Supplier 1: Digi-Key; Supplier Part Number 1: 296-35960-1-ND
footprint U_5_DRL
pins: 1 VCC (power), 2 NC, 3 IO1, 4 GND (power), 5 IO2

## TPD2E001DRL_1
designator U2, comment TPD2E001
TIIntPartnumber: 1A0247; MfrNum: TPD2E001DRL; Mfr: TI; Cost10K: 0.07; Cost100: 0.31; Vendor: Digikey; DescriptiveText: ESD Protection Array 2Chan +-15kV; PartName: TPD2E001; Supplier 1: Digi-Key; Supplier Part Number 1: 296-35960-1-ND
footprint U_5_DRL
pins: 1 VCC (power), 2 NC, 3 IO1, 4 GND (power), 5 IO2

## TPD4S012
designator U?
ESD 4channel USB Interface; Mfr: TI; MfrNum: TPD4S012DRY; TIIntPartnumber: 1A0233; Vendor: Digikey; Cost100: 0.76; Cost10K: 0.23; DescriptiveText: ESD 4channel USB Interface; PartName: TPD4S012; Descriptive_Text: ESD 4channel USB Interface; Supplier 1: Digi-Key; Supplier Part Number 1: 296-24244-1-ND
footprint U_6_DRY
pins: 1 D+, 2 D-, 3 ID, 4 GND (power), 5 NC, 6 VBUS (power)

## TPD4S012_1
designator U?, comment TPD4S012
ESD 4channel USB Interface; Mfr: TI; MfrNum: TPD4S012DRY; TIIntPartnumber: 1A0233; Vendor: Digikey; Cost100: 0.76; Cost10K: 0.23; DescriptiveText: ESD 4channel USB Interface; PartName: TPD4S012; Descriptive_Text: ESD 4channel USB Interface; Supplier 1: Digi-Key; Supplier Part Number 1: 296-24244-1-ND
footprint U_6_DRY
pins: 1 D+, 2 D-, 3 ID, 4 GND (power), 5 NC, 6 VBUS (power)

## TPD6E001RSE
designator U?
ESD Protection Array 6Chan +-15kV; TIIntPartnumber: 1A0248; MfrNum: TPD6E001RSE; Mfr: TI; PartName: TPD6E001; Cost10K: 0.11; Cost100: 0.42; Vendor: Digikey; Descriptive_Text: ESD Protection Array 6Chan +-15kV; DescriptiveText: ESD Protection Array 6Chan +-15kV; Supplier 1: Digi-Key; Supplier Part Number 1: 296-21888-1-ND
footprint U_10_RSE
pins: 1 IO1, 2 IO2, 3 IO3, 4 NC1, 5 GND (power), 6 IO4, 7 IO5, 8 IO6, 9 NC2, 10 VCC (power)

## TPD6E001RSE_1
designator U?
ESD Protection Array 6Chan +-15kV; TIIntPartnumber: 1A0248; MfrNum: TPD6E001RSE; Mfr: TI; PartName: TPD6E001; Cost10K: 0.11; Cost100: 0.42; Vendor: Digikey; Descriptive_Text: ESD Protection Array 6Chan +-15kV; DescriptiveText: ESD Protection Array 6Chan +-15kV; Supplier 1: Digi-Key; Supplier Part Number 1: 296-21888-1-ND
footprint U_10_RSE
pins: 1 IO1, 2 IO2, 3 IO3, 4 NC1, 5 GND (power), 6 IO4, 7 IO5, 8 IO6, 9 NC2, 10 VCC (power)

## TPS2051BD
designator U?  Supplier Part Number 1: 296-26911-5-ND
Power Distribution Switch Current Limited 500mA; Mfr: TI; TIIntPartnumber: 1A0286; Vendor: Digikey; Cost100: 1.70; Cost10K: 0.39; DescriptiveText: Power Distribution Switch Current Limited 500mA; PartName: TPS2051BD; MfrNum: TPS2051BD; Descriptive_Text: Power Distribution Switch Current Limited 500mA; Supplier 1: Digi-Key
footprint U_8_D
pins: 1 GND (power), 2 IN (power), 3 IN (power), 4 EN (in), 5 ~{OC} (oc), 6 OUT (power), 7 OUT (power), 8 OUT (power)

## TPS2051BD_1
designator U?, comment TPS2051BD  Supplier Part Number 1: 296-26911-5-ND
Power Distribution Switch Current Limited 500mA; Mfr: TI; TIIntPartnumber: 1A0286; Vendor: Digikey; Cost100: 1.70; Cost10K: 0.39; DescriptiveText: Power Distribution Switch Current Limited 500mA; PartName: TPS2051BD; MfrNum: TPS2051BD; Descriptive_Text: Power Distribution Switch Current Limited 500mA; Supplier 1: Digi-Key
footprint U_8_D
pins: 1 GND (power), 2 IN (power), 3 IN (power), 4 EN (in), 5 ~{OC} (oc), 6 OUT (power), 7 OUT (power), 8 OUT (power)

## TPS5420D
designator U?
Manufacturer: Texas Instruments; Input Voltage: 5.5 V to 36 V; Input Voltage MAX: 36 V; Number of Outputs: 1 Output; Output Current: 2 A; Output Voltage: Adj to 1.22 V; Switching Frequency: 500 kHz; Topology: Buck; Development Kit: TPS5420EVM-175; Input Voltage MIN: 5.5 V; Supplier 1: Mouser; Manufacturer Part Number: TPS5420D; RoHS: RoHS Compliant; Category: Voltage Regulators - Switching Regulators; Stock 1: 1522; Pricing 1: 1=8.26, 10=7.38, 25=6.64, 50=6.34, 100=6.05, 250=5.46, 500=4.90, 750=4.42, 1000=3.68 (AUD); Operating Temperature Range: - 40 C to + 125 C; Package / Case: SOIC-8; Packaging: Tube; Series: TPS5420; Type: Power Switching Regulator; Brand: Texas Instruments; Mounting Style: SMD/SMT; Maximum Operating Temperature: + 125 C; Minimum Operating Temperature: - 40 C; Product Category: Converters - DC/DC; Standard Pack Qty: 75; RoHS - Mouser: Y; Minimum Order Quantity: 1; Reeling: False; ComponentLink1URL: http://www.mouser.com/ds/2/405/tps5420-451618.pdf; ComponentLink1Description: http://www.mouser.com/ds/2/405/tps5420-451618.pdf; Supplier Part Number 1: 595-TPS5420D
footprint SOIC-8
pins: 1 BOOT, 2 NC, 3 NC, 4 VSENSE, 5 ENA, 6 GND, 7 VIN, 8 PH, 9 GND

## TPS61081DRC
designator U?  Supplier Part Number 1: 296-28007-2-ND
Regulator WLED Driver 1.3A; TIIntPartnumber: 1A0270; Mfr: TI; Cost10K: 0.63; Cost100: 1.11; Vendor: Digikey; Descriptive_Text: Regulator WLED Driver 1.3A; MfrNum: TPS61081DRC; PartName: TPS61081DRC; DescriptiveText: Regulator WLED Driver 1.3A; Supplier 1: Digi-Key
footprint u_10_drc
pins: 1 L (in), 2 VIN (in), 3 SS (in), 4 GND (power), 5 FB (in), 6 EN (in), 7 FSW (in), 8 PGND (power), 9 OUT (out), 10 SW (in), 13, 14, 15, 16, PAD TPAD (power)

## TPS61081DRC_1
designator U?, comment TPS61081DRC  Supplier Part Number 1: 296-28007-2-ND
Regulator WLED Driver 1.3A; TIIntPartnumber: 1A0270; Mfr: TI; Cost10K: 0.63; Cost100: 1.11; Vendor: Digikey; Descriptive_Text: Regulator WLED Driver 1.3A; MfrNum: TPS61081DRC; PartName: TPS61081DRC; DescriptiveText: Regulator WLED Driver 1.3A; Supplier 1: Digi-Key
footprint u_10_drc
pins: 1 L (in), 2 VIN (in), 3 SS (in), 4 GND (power), 5 FB (in), 6 EN (in), 7 FSW (in), 8 PGND (power), 9 OUT (out), 10 SW (in), 13, 14, 15, 16, PAD TPAD (power)

## TPS63010YFF
designator U?  Supplier Part Number 1: 296-23571-1-ND
Buck-Boost Converter with 2A Switches; Mfr: TI; TIIntPartnumber: 1A0287; Vendor: Digikey; Cost100: 1.70; Cost10K: 0.39; DescriptiveText: Buck-Boost Converter with 2A Switches; PartName: TPS63010; MfrNum: TPS63010YFF; Descriptive_Text: Buck-Boost Converter with 2A Switches; Supplier 1: Digi-Key
footprint u_20_dsbga
pins: A1 VIN (power), A2 VIN (power), A3 VINA (power), A4 EN (in), B1 L1 (power), B2 L1 (power), B3 VINA1 (out), B4 SYNC (in), C1 PGND (power), C2 PGND (power), C3 GND (power), C4 ~{PS} (in), D1 L2 (power), D2 L2 (power), D3 GND (power), D4 VSEL (in), E1 VOUT (power), E2 VOUT (power), E3 FB (in), E4 GND (power)

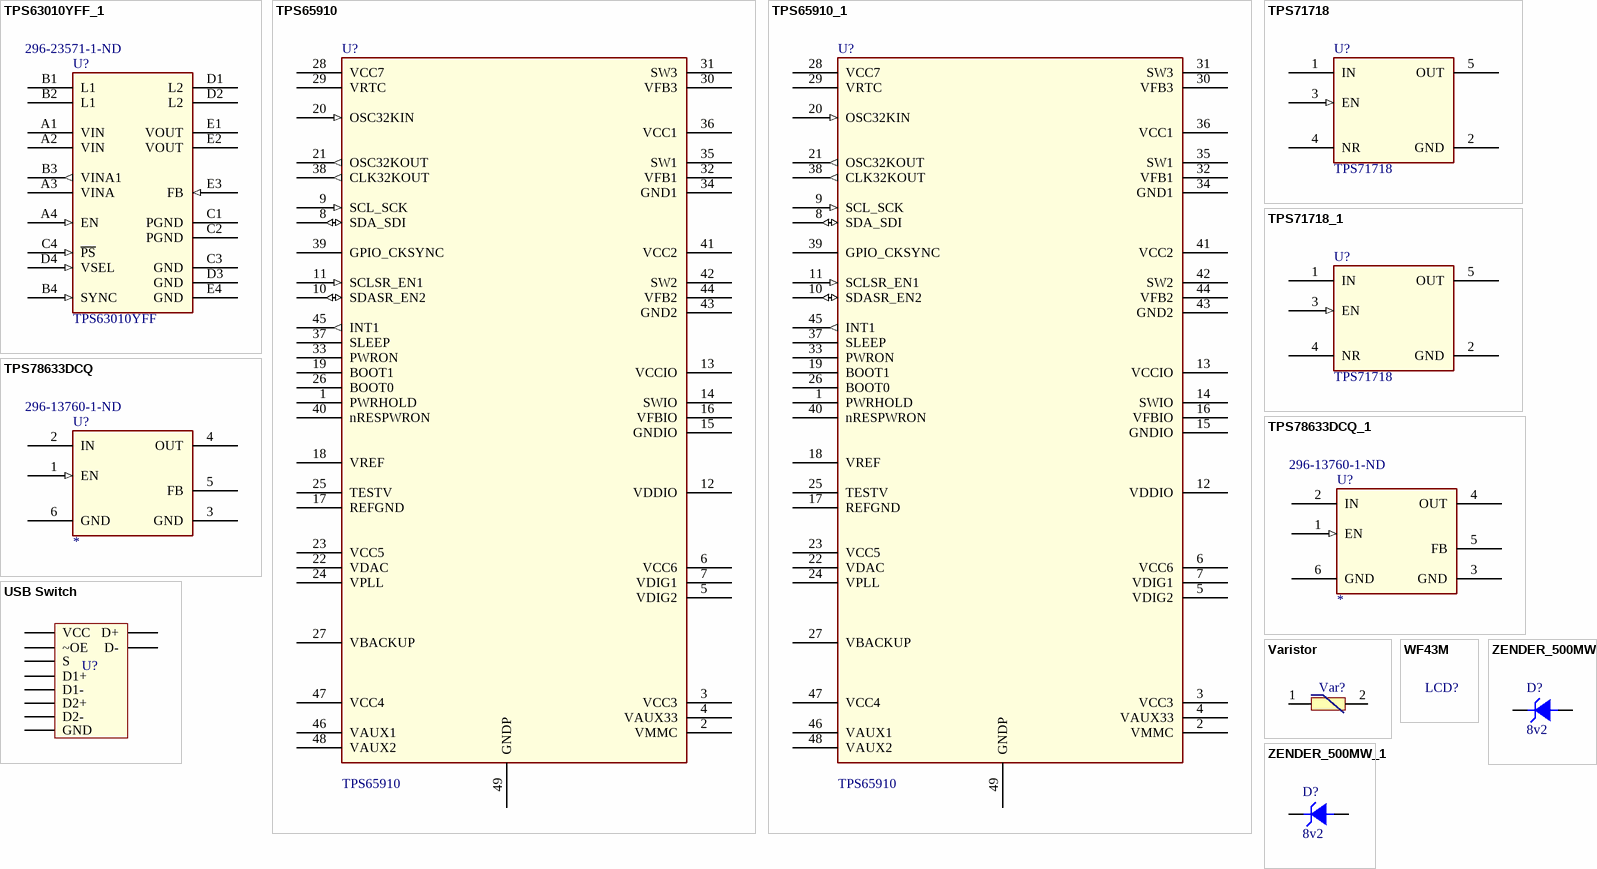
[diagram p19: symbols TPS63010YFF_1 to ZENDER_500MW_1]

## TPS63010YFF_1
designator U?, comment TPS63010YFF  Supplier Part Number 1: 296-23571-1-ND
Buck-Boost Converter with 2A Switches; Mfr: TI; TIIntPartnumber: 1A0287; Vendor: Digikey; Cost100: 1.70; Cost10K: 0.39; DescriptiveText: Buck-Boost Converter with 2A Switches; PartName: TPS63010; MfrNum: TPS63010YFF; Descriptive_Text: Buck-Boost Converter with 2A Switches; Supplier 1: Digi-Key
footprint u_20_dsbga
pins: A1 VIN (power), A2 VIN (power), A3 VINA (power), A4 EN (in), B1 L1 (power), B2 L1 (power), B3 VINA1 (out), B4 SYNC (in), C1 PGND (power), C2 PGND (power), C3 GND (power), C4 ~{PS} (in), D1 L2 (power), D2 L2 (power), D3 GND (power), D4 VSEL (in), E1 VOUT (power), E2 VOUT (power), E3 FB (in), E4 GND (power)

## TPS65910
designator U?
Integrated Power Management Unit; Mfr: TI; MfrNum: TPS65910AA1RSL; TIIntPartnumber: 1A0243; Vendor: Digikey; Cost100: 1.99; Cost10K: 1.00; DescriptiveText: Integrated Power Management Unit; PartName: TPS65910; Descriptive_Text: Integrated Power Management Unit; Supplier 1: Digi-Key; Supplier Part Number 1: 296-28822-ND
footprint VQFN-48 (U_48_RSL)
pins: 1 PWRHOLD, 2 VMMC (power), 3 VCC3 (power), 4 VAUX33 (power), 5 VDIG2, 6 VCC6, 7 VDIG1, 8 SDA_SDI (io), 9 SCL_SCK (in), 10 SDASR_EN2 (io), 11 SCLSR_EN1 (in), 12 VDDIO, 13 VCCIO (power), 14 SWIO (power), 15 GNDIO (power), 16 VFBIO, 17 REFGND (power), 18 VREF, 19 BOOT1, 20 OSC32KIN (in), 21 OSC32KOUT (out), 22 VDAC (power), 23 VCC5 (power), 24 VPLL (power), 25 TESTV, 26 BOOT0, 27 VBACKUP (power), 28 VCC7, 29 VRTC, 30 VFB3, 31 SW3 (power), 32 VFB1, 33 PWRON, 34 GND1 (power), 35 SW1 (power), 36 VCC1, 37 SLEEP, 38 CLK32KOUT (out), 39 GPIO_CKSYNC, 40 nRESPWRON, 41 VCC2, 42 SW2 (power), 43 GND2 (power), 44 VFB2, 45 INT1 (out), 46 VAUX1 (power), 47 VCC4 (power), 48 VAUX2 (power), 49 GNDP (power)

## TPS65910_1
designator U?, comment TPS65910
Integrated Power Management Unit; Mfr: TI; MfrNum: TPS65910AA1RSL; TIIntPartnumber: 1A0243; Vendor: Digikey; Cost100: 1.99; Cost10K: 1.00; DescriptiveText: Integrated Power Management Unit; PartName: TPS65910; Descriptive_Text: Integrated Power Management Unit; Supplier 1: Digi-Key; Supplier Part Number 1: 296-28822-ND
footprint VQFN-48 (U_48_RSL)
pins: 1 PWRHOLD, 2 VMMC (power), 3 VCC3 (power), 4 VAUX33 (power), 5 VDIG2, 6 VCC6, 7 VDIG1, 8 SDA_SDI (io), 9 SCL_SCK (in), 10 SDASR_EN2 (io), 11 SCLSR_EN1 (in), 12 VDDIO, 13 VCCIO (power), 14 SWIO (power), 15 GNDIO (power), 16 VFBIO, 17 REFGND (power), 18 VREF, 19 BOOT1, 20 OSC32KIN (in), 21 OSC32KOUT (out), 22 VDAC (power), 23 VCC5 (power), 24 VPLL (power), 25 TESTV, 26 BOOT0, 27 VBACKUP (power), 28 VCC7, 29 VRTC, 30 VFB3, 31 SW3 (power), 32 VFB1, 33 PWRON, 34 GND1 (power), 35 SW1 (power), 36 VCC1, 37 SLEEP, 38 CLK32KOUT (out), 39 GPIO_CKSYNC, 40 nRESPWRON, 41 VCC2, 42 SW2 (power), 43 GND2 (power), 44 VFB2, 45 INT1 (out), 46 VAUX1 (power), 47 VCC4 (power), 48 VAUX2 (power), 49 GNDP (power)

## TPS71718
designator U?
Low Dropout 1.8V 150mA Linear Regulator; Mfr: TI; MfrNum: TPS71718DCK; TIIntPartnumber: 1A0262; Vendor: Digikey; Cost100: 1.21; Cost10K: 0.31; DescriptiveText: Low Dropout 1.8V 150mA Linear Regulator; PartName: TPS71718; Descriptive_Text: Low Dropout 1.8V 150mA Linear Regulator
footprint smdsc70-5 (SMDSC70-5)
pins: 1 IN, 2 GND (power), 3 EN (in), 4 NR, 5 OUT

## TPS71718_1
designator U?, comment TPS71718
Low Dropout 1.8V 150mA Linear Regulator; Mfr: TI; MfrNum: TPS71718DCK; TIIntPartnumber: 1A0262; Vendor: Digikey; Cost100: 1.21; Cost10K: 0.31; DescriptiveText: Low Dropout 1.8V 150mA Linear Regulator; PartName: TPS71718; Descriptive_Text: Low Dropout 1.8V 150mA Linear Regulator
footprint smdsc70-5 (SMDSC70-5)
pins: 1 IN, 2 GND (power), 3 EN (in), 4 NR, 5 OUT

## TPS78633DCQ
designator U?  Supplier Part Number 1: 296-13760-1-ND
TIIntPartnumber: 1A0094; MfrNum: TPS78633DCQ; Mfr: TI; PartName: TPS78633; DescriptiveText: Linear Power Regulator 3.3V 1.5A; Cost10K: 1.01; Cost100: 1.25; Vendor: Arrow; Supplier 1: Digi-Key
footprint SOT223_6PIN
pins: 1 EN (in), 2 IN, 3 GND (power), 4 OUT (power), 5 FB, 6 GND (power)

## TPS78633DCQ_1
designator U?  Supplier Part Number 1: 296-13760-1-ND
TIIntPartnumber: 1A0094; MfrNum: TPS78633DCQ; Mfr: TI; PartName: TPS78633; DescriptiveText: Linear Power Regulator 3.3V 1.5A; Cost10K: 1.01; Cost100: 1.25; Vendor: Arrow; Supplier 1: Digi-Key
footprint SOT223_6PIN
pins: 1 EN (in), 2 IN, 3 GND (power), 4 OUT (power), 5 FB, 6 GND (power)

## USB Switch
designator U?
IC USB SWITCH SGL 1X2 10MSOP; Manufacturer: Texas Instruments; Manufacturer Part Number: TS3USB30EDGSR; Circuit: 2 x 2:1; On-State Resistance (Max): 10 Ohm; Voltage Supply Source: Single Supply; Voltage - Supply, Single/Dual (±): 3 V ~ 4.3 V; Current - Supply: 1µA; Supplier 1: Digi-Key; RoHS: RoHS Compliant; Category: Integrated Circuits (ICs); Stock 1: 7500; Pricing 1: 2500=0.55125 (USD); Packaging: Tape & Reel (TR); Function: USB Switch; Operating Temperature: -40°C ~ 85°C; Mounting Type: Surface Mount; Package / Case: 10-TFSOP, 10-MSOP (0.118", 3.00mm Width); Supplier Device Package: 10-VSSOP; ComponentLink1URL: http://www.ti.com/lit/ds/symlink/ts3usb30e.pdf; ComponentLink1Description: http://www.ti.com/lit/ds/symlink/ts3usb30e.pdf; Supplier Part Number 1: 296-25495-2-ND
footprint S-PDSO-G 10
pins: 1 S, 2 D1+, 3 D2+, 4 D+, 5 GND, 6 D-, 7 D2-, 8 D1-, 9 ~OE, 10 VCC

## Varistor
designator Var?  (value not drawn)
VISHAY - MLV0805E30403T - VARISTOR, 0805, 40A, 4V; Product Range: MLV Series; Voltage Rating V AC: 4; Voltage Rating V DC: 5.6; Clamping Voltage Vc Max: 15.5; Varistor Case Style: 0805 [2012 Metric]; Varistor Type: Multilayer Varistor (MLV); Peak Surge Current @ 8/20µs: 40; Peak Energy (10/1000uS): 100; Capacitance: 860; External Depth: 1.25; External Length / Height: 1; External Width: 2; Reel Quantity: 4000; Supplier 1: Farnell; Manufacturer: VISHAY; Manufacturer Part Number: MLV0805E30403T; RoHS: YES; Pricing 1: 10=0.152, 100=0.134, 500=0.117, 1000=0.103, 4000=0.0909 (GBP); Operating Temperature Min: -55; Operating Temperature Max: 125; Clamping Voltage: 15.5; Clamping Voltage @ 8/20µs Max: 15.5; Operating Temperature Range: -55°C to +125; Packaging: Cut Tape; Peak Pulse Current IPP @ 8/20µs: 40; Suppressor Type: Varistor; Surge Current: 40; ComponentLink1URL: http://www.farnell.com/datasheets/459634.pdf; ComponentLink1Description: http://www.farnell.com/datasheets/459634.pdf; Supplier Part Number 1: 1761095RL
footprint 0805
pins: 1, 2

## WF43M
designator LCD?  (value not drawn)
footprint WF43M
3 alternate drawings of the same symbol

## ZENDER_500MW
designator D?, comment value 8v2  (hidden comment: 500mW Zener)
500mW Zener Diode; Supplier 1: Farnell; Supplier Part Number 1: 1700905
footprint HEADER,2PİN
pins: 1 C, 2 A

## ZENDER_500MW_1
designator D?, comment value 8v2  (hidden comment: 500mW Zener)
500mW Zener Diode; Supplier 1: Farnell; Supplier Part Number 1: 1700905
footprint HEADER,2PİN
pins: 1 C, 2 A